# Altium schematic symbol library CCG-1206.SchLib: 1 symbol
Pins are listed as number, name and electrical type; pins without a type are passive.

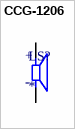
[diagram p0: symbol CCG-1206]

## CCG-1206
designator LS?
12 mm, 5 V, 85 dB, Through Hole, Sealed, Magnetic Audio Transducer Buzzer; Availability: Unavailable; Value: *; Package: None; MP: CCG-1206; Price: None
footprint CUI_CCG-1206
pins: M, P
text: +; -